# EAGLE library part GSM_SIM800L (library adafruit-with-additions)
SIM800K Quad-Band GSM/GPRS Module 850/900/1800/1900 MHz Bluetooth EDR (3.0) FM Band: 76-109MHz (50kHz steps) -40 - 85°C
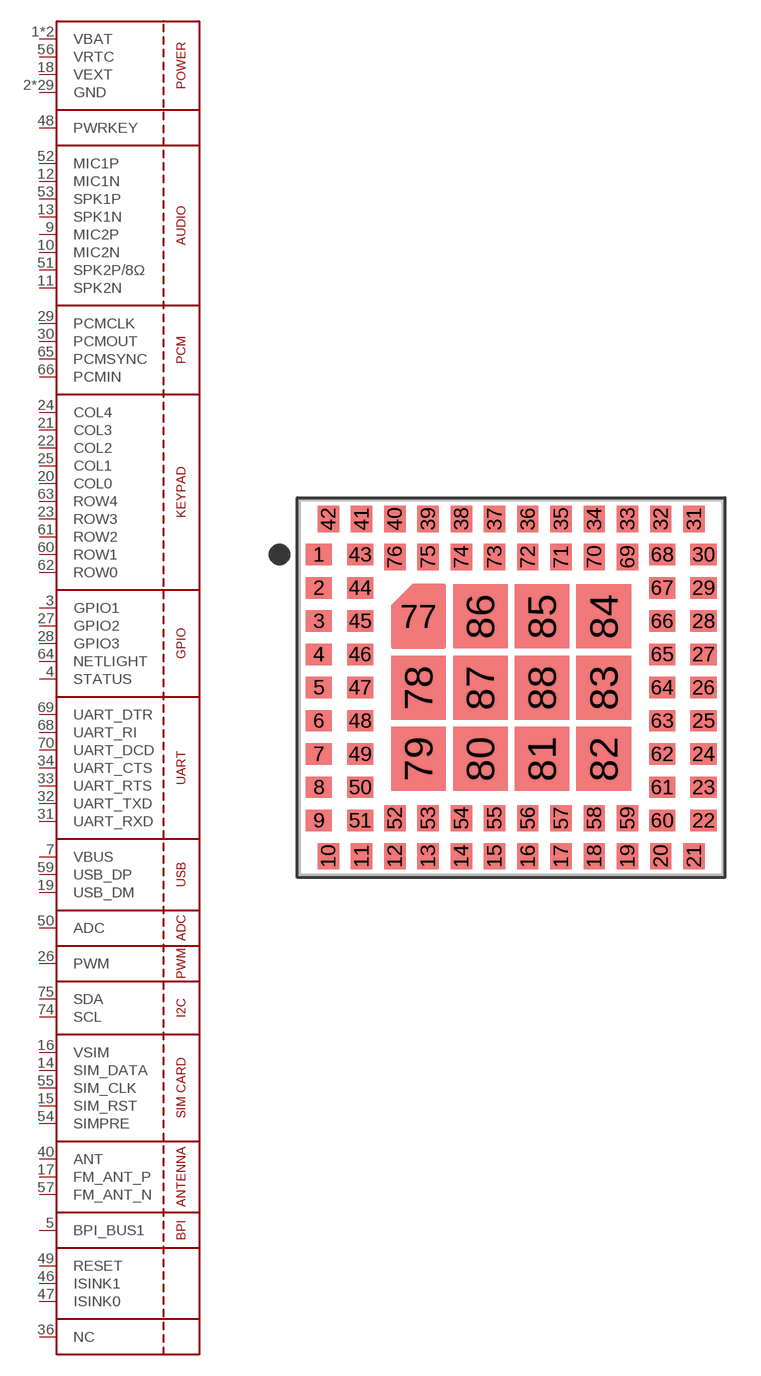
[diagram p119: symbol with the pads of SIM800L; footprint SIM800L]

Designator prefix U

## GSM_SIM800L  [SIM800L]
1  VBAT  pwr
2  GND  pwr
3  GPIO1
4  STATUS  out
5  BPI_BUS1  out
6  GND  pwr
7  VBUS  pwr
8  GND  pwr
9  MIC2P  in
10  MIC2N  in
11  SPK2N  out
12  MIC1N  in
13  SPK1N  out
14  SIM_DATA
15  SIM_RST  out
16  VSIM  pwr
17  FM_ANT_P
18  VEXT  pwr
19  USB_DM
20  COL0
21  COL3
22  COL2
23  ROW3
24  COL4
25  COL1
26  PWM  out
27  GPIO2
28  GPIO3
29  PCMCLK  out
30  PCMOUT  out
31  UART_RXD  in
32  UART_TXD  out
33  UART_RTS  in
34  UART_CTS  out
35  GND  pwr
36  NC  nc
37  GND  pwr
38  GND  pwr
39  GND  pwr
40  ANT
41  GND  pwr
42  VBAT  pwr
43  GND  pwr
44  GND  pwr
45  GND  pwr
46  ISINK1  in
47  ISINK0  in
48  PWRKEY  in
49  RESET  in
50  ADC  in
51  SPK2P/8Ω  out
52  MIC1P  in
53  SPK1P  out
54  SIMPRE  in
55  SIM_CLK  out
56  VRTC  pwr
57  FM_ANT_N
58  GND  pwr
59  USB_DP
60  ROW1
61  ROW2
62  ROW0
63  ROW4
64  NETLIGHT  out
65  PCMSYNC  out
66  PCMIN  in
67  GND  pwr
68  UART_RI  out
69  UART_DTR  in
70  UART_DCD  in
71  GND  pwr
72  GND  pwr
73  GND  pwr
74  SCL
75  SDA
76  GND  pwr
77  GND  pwr
78  GND  pwr
79  GND  pwr
80  GND  pwr
81  GND  pwr
82  GND  pwr
83  GND  pwr
84  GND  pwr
85  GND  pwr
86  GND  pwr
87  GND  pwr
88  GND  pwr

## Footprint SIM800L (pad centres in mm)
smd 1.1 x 0.9: 1 -8.1,5.6; 2 -8.1,4.2; 3 -8.1,2.8; 4 -8.1,1.4; 5 -8.1,0; 6 -8.1,-1.4; 7 -8.1,-2.8; 8 -8.1,-4.2; 9 -8.1,-5.6; 22 8.1,-5.6; 23 8.1,-4.2; 24 8.1,-2.8; 25 8.1,-1.4; 26 8.1,0; 27 8.1,1.4; 28 8.1,2.8; 29 8.1,4.2; 30 8.1,5.6; 43 -6.36,5.6; 44 -6.36,4.2; 45 -6.36,2.8; 46 -6.36,1.4; 47 -6.36,0; 48 -6.36,-1.4; 49 -6.36,-2.8; 50 -6.36,-4.2; 51 -6.36,-5.6; 60 6.36,-5.6; 61 6.36,-4.2; 62 6.36,-2.8; 63 6.36,-1.4; 64 6.36,0; 65 6.36,1.4; 66 6.36,2.8; 67 6.36,4.2; 68 6.36,5.6
smd 0.9 x 1.1: 10 -7.7,-7.1; 11 -6.3,-7.1; 12 -4.9,-7.1; 13 -3.5,-7.1; 14 -2.1,-7.1; 15 -0.7,-7.1; 16 0.7,-7.1; 17 2.1,-7.1; 18 3.5,-7.1; 19 4.9,-7.1; 20 6.3,-7.1; 21 7.7,-7.1; 31 7.7,7.1; 32 6.3,7.1; 33 4.9,7.1; 34 3.5,7.1; 35 2.1,7.1; 36 0.7,7.1; 37 -0.7,7.1; 38 -2.1,7.1; 39 -3.5,7.1; 40 -4.9,7.1; 41 -6.3,7.1; 42 -7.7,7.1; 52 -4.9,-5.5; 53 -3.5,-5.5; 54 -2.1,-5.5; 55 -0.7,-5.5; 56 0.7,-5.5; 57 2.1,-5.5; 58 3.5,-5.5; 59 4.9,-5.5; 69 4.9,5.5; 70 3.5,5.5; 71 2.1,5.5; 72 0.7,5.5; 73 -0.7,5.5; 74 -2.1,5.5; 75 -3.5,5.5; 76 -4.9,5.5
smd 1.5 x 1.5: 77 -3.9,3
smd 2.3 x 2.7: 78 -3.9,0; 79 -3.9,-3; 80 -1.3,-3; 81 1.3,-3; 82 3.9,-3; 83 3.9,0; 84 3.9,3; 85 1.3,3; 86 -1.3,3; 87 -1.3,0; 88 1.3,0